# Altium footprint library PCB_library.PcbLib: 36 footprints (part 3 of 3)
Each footprint in its own frame and in the unit in brackets; x right, y up, seen from the top. Pads: shape width x height; smd on the part's side, far side on the other; paste and mask are expansions set on the pad; w line width, h text height; cw(c..) or ccw(c..) is an arc to the next point about the centre after c.
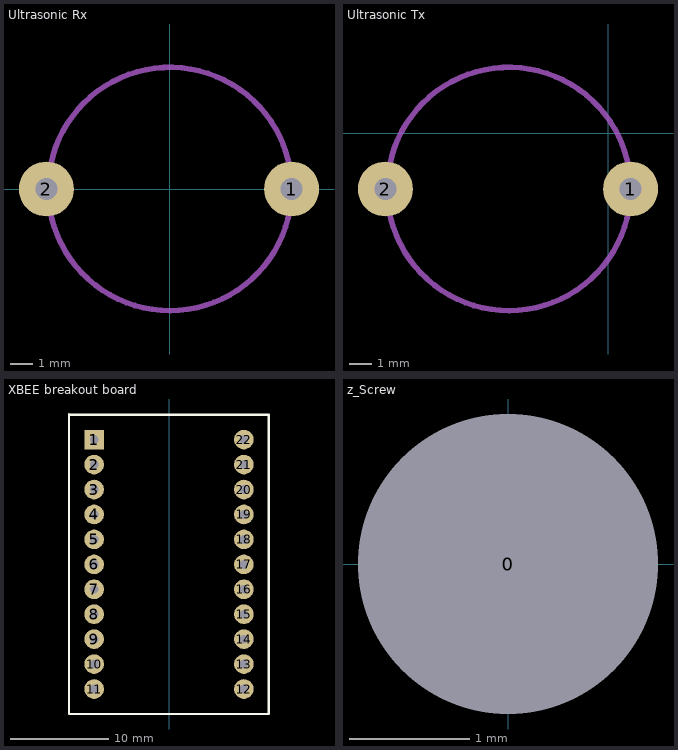
[diagram p2: the footprints below, top view; thin cyan lines are the x and y axes]

## Ultrasonic Rx [mm] "3D model of adjustable board"
height 25
pads (2):
  round 2.5 hole 1 unplated: 1(5.547,0) 2(-5.629,0)
Mechanical 1:
  lines w0.254: 5.545,-0.126 cw(c0,0) 5.547,0
3D body: height 20.1, standoff 20, extent -5.726,-5.678 5.701,5.674
3D body: height 20.75, standoff 18.75, extent -0.989,-0.996 1,0.996
3D body: height 20.6, standoff 20.5, extent -5.002,-4.99 4.959,4.99
3D body: height 19.1, standoff 19, extent -6.986,-6.986 6.959,6.986
3D body: height 18, standoff 8, extent -9.962,-9.98 9.959,9.98
3D body: height 8, standoff 0, extent -6.869,-1.247 -4.379,1.248
3D body: height 8, standoff 0, extent 4.307,-1.247 6.797,1.248

## Ultrasonic Tx [mm] "3d model"
height 12
pads (2):
  round 2.5 hole 1 unplated: 1(1.016,-2.54) 2(-10.16,-2.54)
Mechanical 1:
  lines w0.254: 1.015,-2.666 cw(c-4.531,-2.54) 1.016,-2.54
3D body: height 8, standoff 0, extent -0.224,-3.787 2.266,-1.292
3D body: height 8, standoff 0, extent -11.4,-3.787 -8.91,-1.292
3D body: height 18, standoff 8, extent -14.493,-12.52 5.428,7.44
3D body: height 19.1, standoff 19, extent -11.517,-9.526 2.428,4.446
3D body: height 20.6, standoff 20.5, extent -9.533,-7.53 0.428,2.45
3D body: height 20.75, standoff 18.75, extent -5.52,-3.536 -3.531,-1.544
3D body: height 20.1, standoff 20, extent -10.257,-8.218 1.17,3.134

## XBEE breakout board [mm] "3d model"
height 5
pads (22):
  rect 2x2 hole 0.9: 1(-7.62,35.56)
  round 2 hole 0.9: 2(-7.62,33.02) 3(-7.62,30.48) 4(-7.62,27.94) 5(-7.62,25.4) 6(-7.62,22.86) 7(-7.62,20.32) 8(-7.62,17.78) 9(-7.62,15.24) 10(-7.62,12.7) 11(-7.62,10.16) 12(7.62,10.16) 13(7.62,12.7) 14(7.62,15.24) 15(7.62,17.78) 16(7.62,20.32) 17(7.62,22.86) 18(7.62,25.4) 19(7.62,27.94) 20(7.62,30.48) 21(7.62,33.02) 22(7.62,35.56)
Top Overlay:
  lines w0.2: -10.16,7.62 -10.16,38.17
  lines w0.254: -10.16,7.62 10.16,7.62 10.16,38.1 -10.16,38.1
3D body: height 6.1, standoff 6, extent -10.95,12.7 10.973,40.64
3D body: height 4, standoff 0, extent 6.724,34.659 8.517,36.461
3D body: height 4, standoff 0, extent 6.724,32.119 8.517,33.921
3D body: height 4, standoff 0, extent 6.724,29.579 8.517,31.381
3D body: height 4, standoff 0, extent 6.724,27.039 8.517,28.841
3D body: height 4, standoff 0, extent 6.724,24.499 8.517,26.301
3D body: height 4, standoff 0, extent 6.724,21.959 8.517,23.761
3D body: height 4, standoff 0, extent 6.724,19.419 8.517,21.221
3D body: height 4, standoff 0, extent 6.724,16.879 8.517,18.681
3D body: height 4, standoff 0, extent 6.724,14.339 8.517,16.141
3D body: height 4, standoff 0, extent 6.724,11.799 8.517,13.601
3D body: height 4.1, standoff 4, extent -10.16,7.62 10.16,38.1
3D body: height 6, standoff 4, extent 6.42,12.92 8.82,33.02
3D body: height 4, standoff 0, extent 6.724,9.259 8.517,11.061
3D body: height 4, standoff 0, extent -8.516,9.259 -6.723,11.061
3D body: height 4, standoff 0, extent -8.516,11.799 -6.723,13.601
3D body: height 4, standoff 0, extent -8.516,16.879 -6.723,18.681
3D body: height 4, standoff 0, extent -8.516,19.419 -6.723,21.221
3D body: height 4, standoff 0, extent -8.516,21.959 -6.723,23.761
3D body: height 4, standoff 0, extent -8.516,24.499 -6.723,26.301
3D body: height 4, standoff 0, extent -8.516,27.039 -6.723,28.841
3D body: height 4, standoff 0, extent -8.516,32.119 -6.723,33.921
3D body: height 4, standoff 0, extent -8.516,34.659 -6.723,36.461
3D body: height 4, standoff 0, extent -8.516,29.579 -6.723,31.381
3D body: height 6, standoff 4, extent -10.95,12.738 -8.55,32.838

## z_Screw [mil] "screw hole"
pads (1):
  round 60 hole 98.43: 0(0,0)